# Altium footprint library JUMPER2x3.PcbLib: 2 footprints
Each footprint in its own frame and in the unit in brackets; x right, y up, seen from the top. Pads: shape width x height; smd on the part's side, far side on the other; paste and mask are expansions set on the pad; w line width, h text height; cw(c..) or ccw(c..) is an arc to the next point about the centre after c.
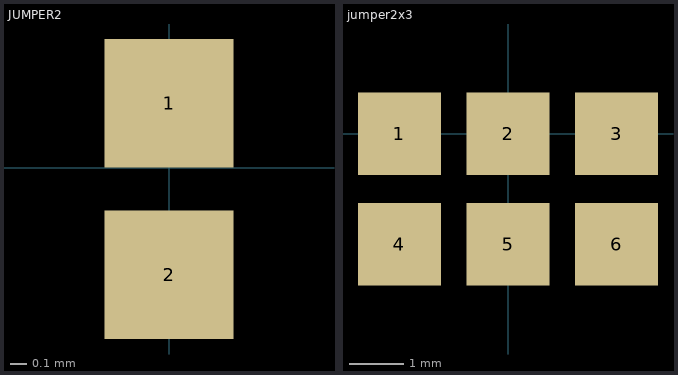
[diagram p0: the footprints below, top view; thin cyan lines are the x and y axes]

## JUMPER2 [mil]
pads (2):
  rect 30x30 smd: 1(0,15) 2(0,-25)

## jumper2x3 [mil]
pads (6):
  rect 60x60 smd: 1(-78.74,0) 2(0,0) 3(78.74,0) 4(-78.74,-80) 5(0,-80) 6(78.74,-80)